# Altium footprint library RP2040_minimal.PcbLib: 3 footprints
Each footprint in its own frame and in the unit in brackets; x right, y up, seen from the top. Pads: shape width x height; smd on the part's side, far side on the other; paste and mask are expansions set on the pad; w line width, h text height; cw(c..) or ccw(c..) is an arc to the next point about the centre after c.
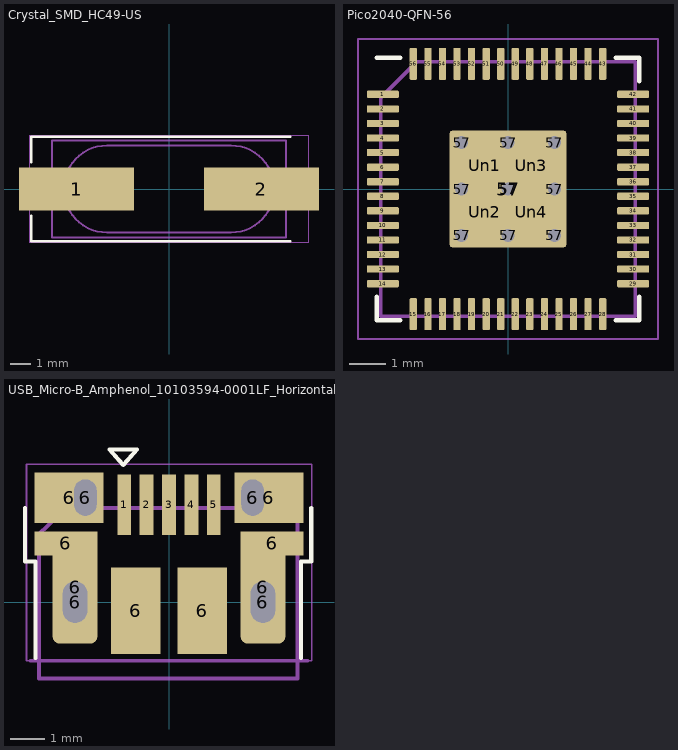
[diagram p0: the footprints below, top view; thin cyan lines are the x and y axes]

## Crystal_SMD_HC49-US [mm]
pads (2):
  rect 5.6x2.1 smd: 1(-4.5,0) 2(4.5,0)
F.SilkS:
  lines w0.12: -6.7,-1.3 -6.7,-2.55 5.9,-2.55 ; -6.7,1.3 -6.7,2.55 5.9,2.55
F.CrtYd:
  lines w0.05: -6.8,-2.6 6.8,-2.6 6.8,2.6 -6.8,2.6 -6.8,-2.6
F.Fab:
  lines w0.1: -5.7,-2.35 5.7,-2.35 5.7,2.35 -5.7,2.35 -5.7,-2.35 ; -3.015,-2.115 cw(c-3.015,0) -3.015,2.115 3.015,2.115 cw(c3.015,0) 3.015,-2.115 -3.015,-2.115
  text "'.Designator'" at -1.439,-0.398 h1

## Pico2040-QFN-56 [mm]
pads (70):
  rrect25% 0.875x0.2 smd: 1(-3.437,2.6) 2(-3.437,2.2) 3(-3.437,1.8) 4(-3.437,1.4) 5(-3.437,1) 6(-3.437,0.6) 7(-3.437,0.2) 8(-3.437,-0.2) 9(-3.437,-0.6) 10(-3.437,-1) 11(-3.437,-1.4) 12(-3.437,-1.8) 13(-3.437,-2.2) 14(-3.437,-2.6) 29(3.437,-2.6) 30(3.437,-2.2) 31(3.437,-1.8) 32(3.437,-1.4) 33(3.437,-1) 34(3.437,-0.6) 35(3.437,-0.2) 36(3.437,0.2) 37(3.437,0.6) 38(3.437,1) 39(3.437,1.4) 40(3.437,1.8) 41(3.437,2.2) 42(3.437,2.6)
  rrect25% 0.2x0.875 smd: 15(-2.6,-3.437) 16(-2.2,-3.437) 17(-1.8,-3.437) 18(-1.4,-3.437) 19(-1,-3.437) 20(-0.6,-3.437) 21(-0.2,-3.437) 22(0.2,-3.437) 23(0.6,-3.437) 24(1,-3.437) 25(1.4,-3.437) 26(1.8,-3.437) 27(2.2,-3.437) 28(2.6,-3.437) 43(2.6,3.437) 44(2.2,3.437) 45(1.8,3.437) 46(1.4,3.437) 47(1,3.437) 48(0.6,3.437) 49(0.2,3.437) 50(-0.2,3.437) 51(-0.6,3.437) 52(-1,3.437) 53(-1.4,3.437) 54(-1.8,3.437) 55(-2.2,3.437) 56(-2.6,3.437)
  round 0.6 hole 0.35: 57(-1.275,-1.275) 57(-1.275,0) 57(-1.275,1.275) 57(0,-1.275) 57(0,0) 57(0,1.275) 57(1.275,-1.275) 57(1.275,0) 57(1.275,1.275)
  rrect4% 3.2x3.2 smd: 57(0,0)
  rrect23% 1.084x1.084 on Top Paste: Un1(-0.637,0.637) Un2(-0.637,-0.637) Un3(0.637,0.637) Un4(0.637,-0.637)
F.SilkS:
  lines w0.12: -3.61,-2.96 -3.61,-3.61 -2.96,-3.61 ; -3.61,3.61 -2.96,3.61 ; 2.96,-3.61 3.61,-3.61 3.61,-2.96 ; 2.96,3.61 3.61,3.61 3.61,2.96
F.CrtYd:
  lines w0.05: -4.12,-4.12 -4.12,4.12 4.12,4.12 4.12,-4.12 -4.12,-4.12
F.Fab:
  lines w0.1: -3.5,-3.5 3.5,-3.5 3.5,3.5 -2.5,3.5 -3.5,2.5 -3.5,-3.5
  text "'.Designator'" at -1.439,-0.398 h1

## USB_Micro-B_Amphenol_10103594-0001LF_Horizontal_modified [mm]
pads (17):
  rect 0.4x1.75 smd: 1(-1.3,2.825) 2(-0.65,2.825) 3(0,2.825) 4(0.65,2.825) 5(1.3,2.825)
  rect 1.825x0.7 smd: 6(-2.987,1.7) 6(2.987,1.7)
  rect 2x1.46 smd: 6(-2.9,3.03) 6(2.9,3.03)
  rrect100% 1.3x1.8 hole 0.7 slot 1.2 at 90 deg: 6(-2.725,0) 6(2.725,0)
  rrect30% 1.3x3.25 smd: 6(-2.725,0.425) 6(2.725,0.425)
  rrect100% 1.05x1.45 hole 0.65 slot 1.05 at 90 deg: 6(-2.425,3.03) 6(2.425,3.03)
  rect 1.425x2.5 smd: 6(-0.962,-0.25) 6(0.962,-0.25)
F.SilkS:
  lines w0.12: -4.175,2.73 -4.175,1.18 -3.875,1.18 -3.875,-1.62 ; 3.825,-1.62 3.825,1.18 4.125,1.18 4.125,2.73 ; -1.725,4.43 -1.325,3.98 -0.925,4.43 -1.725,4.43
Dwgs.User:
  lines w0.1: -4.02,-1.7 4.02,-1.7
  text "PCB edge" at 0.523,-0.929 h0.5
F.CrtYd:
  lines w0.05: -4.13,-1.7 4.14,-1.7 4.14,3.995 -4.13,3.995 -4.13,-1.7
F.Fab:
  lines w0.12: -3.775,-2.22 -3.775,1.98 -2.975,2.73 3.725,2.73 3.725,-2.22 -3.775,-2.22
  text "'.Designator'" at 1.414,1.528 h1